# Altium schematic symbol library Hydrolib_sch.SchLib: 65 symbols
Pins are listed as number, name and electrical type; pins without a type are passive.

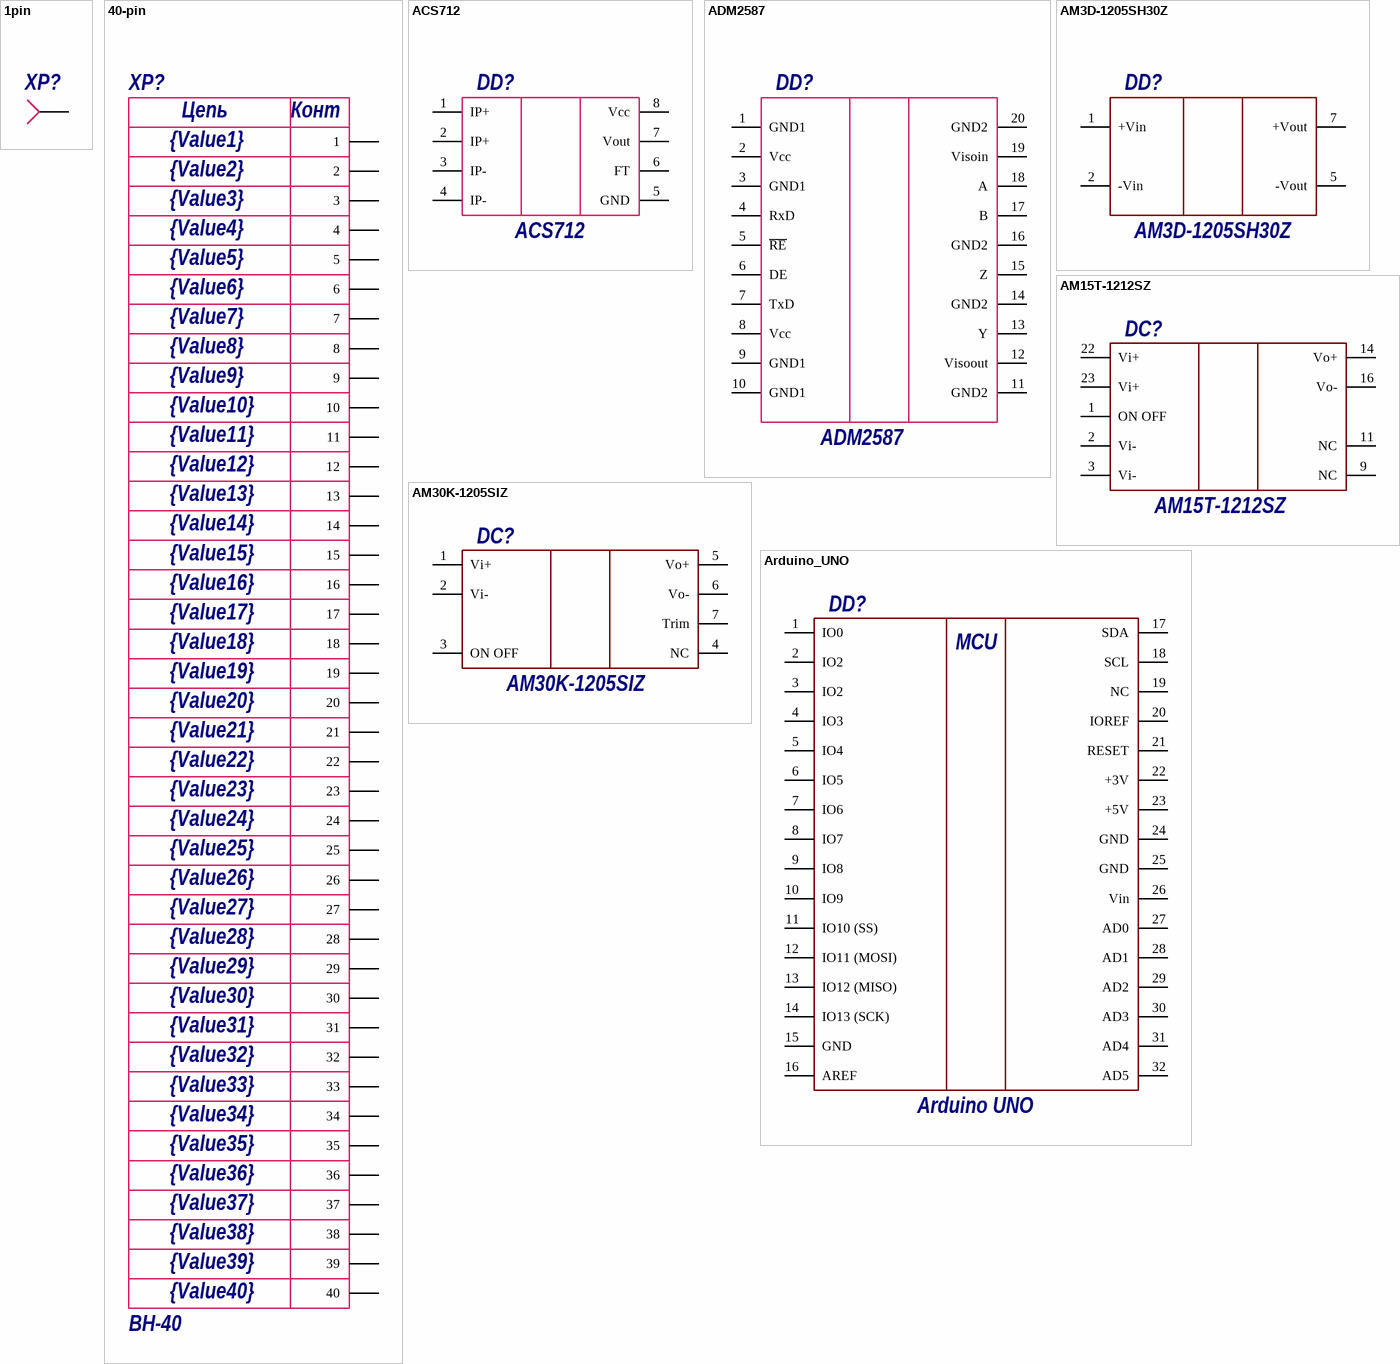
[diagram p0: symbols 1pin to Arduino_UNO]

## 1pin
designator XP?, comment номинал или название  (value not drawn)
Manufacturer: производитель; Rate: уровень напряжений; Shop: магазин с самой дешевой ценой; Notice: примечания; Datasheet: ссылка на даташит; Case: корпус; Value: номинал или название
footprint M3
pins: 1 M2,5

## 40-pin
designator XP?  value BH-40  Value10: {Value10}  Value11: {Value11}  Value12: {Value12}  Value13: {Value13}  Value14: {Value14}  Value15: {Value15}  Value16: {Value16}  Value17: {Value17}  Value18: {Value18}  Value1: {Value1}  Value2: {Value2}  Value3: {Value3}  Value4: {Value4}  Value5: {Value5}  Value6: {Value6}  Value7: {Value7}  Value8: {Value8}  Value9: {Value9}  Value19: {Value19}  Value20: {Value20}  Value21: {Value21}  Value22: {Value22}  Value23: {Value23}  Value24: {Value24}  Value25: {Value25}  Value26: {Value26}  Value27: {Value27}  Value28: {Value28}  Value29: {Value29}  Value30: {Value30}  Value31: {Value31}  Value32: {Value32}  Value33: {Value33}  Value34: {Value34}  Value35: {Value35}  Value36: {Value36}  Value37: {Value37}  Value38: {Value38}  Value39: {Value39}  Value40: {Value40}  (hidden comment: *)
Manufacturer: Connfly; Notice: Вилка-мама 40 пинов, шаг 2.54мм; Rate: 500В AC 1min; Case: корпус; Datasheet: https://lib.chipdip.ru/463/DOC002463525.pdf; Shop: https://www.chipdip.ru/product/idc-40ms
footprint BH-40(IDC-40MS)
pins: 1, 2, 3, 4, 5, 6, 7, 8, 9, 10, 11, 12, 13, 14, 15, 16, 17, 18, 19, 20, 21, 22, 23, 24, 25, 26, 27, 28, 29, 30, 31, 32, 33, 34, 35, 36, 37, 38, 39, 40
text: Цепь; Конт

## ACS712
designator DD?
Manufacturer: Allegro Microsystems; Rate: 4,5...5,5В; Notice: Датчик постоянного тока на эффекте Холла; Datasheet: http://www.allegromicro.com/~/media/Files/Datasheets/ACS712-Datasheet.ashx; Shop: https://www.chipdip.ru/product/acs712elctr-05b-t; Value: ACS712
footprint SOIC8N (SOIC, 8-Leads, Body 4,90x3,90mm, Pitch 1,27mm, IPC Medium Density)
pins: 1 IP+, 2 IP+, 3 IP-, 4 IP-, 5 GND, 6 FT, 7 Vout, 8 Vcc

## ADM2587
designator DD?
Manufacturer: Analog Devies; Notice: Преобразователь RS-485 - UART с развязанным питанием и шиной данных; Rate: -0,5...7,5В; Datasheet: http://www.analog.com/media/en/technical-documentation/data-sheets/ADM2582E_2587E.pdf; Shop: https://ru.aliexpress.com/item/Free-shipping-10PCS-1lot-IC-ADM2587EBRWZ-ADM2587E-2587EBRWZ-SOP-20/32722806856.html?spm=a2g0v.search0302.3.9.s5rrmf&ws_ab_test=searchweb0_0,searchweb201602_0_10073_10152_10151_10536_10538_10537_10539_10055_10154_10211_10056_10155_10059_10312_10314_10534_10313_10533_10060_10084_100031_10083_10129_10107_10128_10307_10341_10065_10142_10340_10068_10343_10541_10342_10125_10169_10301_10345_10103_10543_10102_10344,searchweb201603_0,ppcSwitch_0&algo_pvid=65e5a329-1a38-4845-a227-d5df7d082cf8&algo_expid=65e5a329-1a38-4845-a227-d5df7d082cf8-1
footprint SOIC20N (SOIC, 20-Leads, Body 12,80x7,50mm, Pitch 1,27mm, IPC Medium Density)
pins: 1 GND1 (power), 2 Vcc (power), 3 GND1, 4 RxD, 5 ~{RE}, 6 DE, 7 TxD, 8 Vcc (power), 9 GND1 (power), 10 GND1, 11 GND2 (power), 12 Visoout (power), 13 Y, 14 GND2, 15 Z, 16 GND2, 17 B, 18 A, 19 Visoin (power), 20 GND2 (power)

## AM3D-1205SH30Z
designator DD?
Manufacturer: AIMTEC; Rate: 10,8…13,2В; Shop: ЭЛТЕХ-СПБ; Datasheet: http://www.aimtec.com/site/Aimtec/files/Datasheet/HIGHResolution/AM3D-Z.PDF; Notice: *; Case: SIP7; Value: AM3D-1205SH30Z
footprint AM3D-1205SH30Z
pins: 1 +Vin, 2 -Vin, 5 -Vout, 7 +Vout

## AM15T-1212SZ
designator DC?  value AM15T-1212SZ  (hidden comment: *)
Manufacturer: Aimtec; Notice: 15 ваттный DC-DC преобразователь; Rate: 9...18В; Datasheet: http://www.aimtec.com/site/Aimtec/files/Datasheet/HighResolution/AM15T-Z.pdf; Shop: http://www.eltech.spb.ru/item/am15t_1212sz
footprint AM15T-1212SZ
pins: 1 ON OFF, 2 Vi-, 3 Vi-, 9 NC, 11 NC, 14 Vo+, 16 Vo-, 22 Vi+, 23 Vi+

## AM30K-1205SIZ
designator DC?  value AM30K-1205SIZ  (hidden comment: *)
Manufacturer: Aimtec; Notice: 30 ваттный DC-DC преобразователь; Rate: 9...18В; Datasheet: http://www.aimtec.com/site/Aimtec/files/Datasheet/HighResolution/AM30K-I-Z.pdf; Shop: https://www.eltech.spb.ru/item/am30k_1205siz
footprint AM30K-1205SIZ
pins: 1 Vi+, 2 Vi-, 3 ON OFF, 4 NC, 5 Vo+, 6 Vo-, 7 Trim

## Arduino_UNO
designator DD?  value Arduino UNO  Value1: MCU  (hidden comment: *)
Manufacturer: Arduino; Notice: Микроконтроллерная плата; Rate: 6...20В; Datasheet: https://www.farnell.com/datasheets/1682209.pdf
footprint ARDUINO_UNO
pins: 1 IO0, 2 IO2, 3 IO2, 4 IO3, 5 IO4, 6 IO5, 7 IO6, 8 IO7, 9 IO8, 10 IO9, 11 IO10 (SS), 12 IO11 (MOSI), 13 IO12 (MISO), 14 IO13 (SCK), 15 GND, 16 AREF, 17 SDA, 18 SCL, 19 NC, 20 IOREF, 21 RESET, 22 +3V, 23 +5V, 24 GND, 25 GND, 26 Vin, 27 AD0, 28 AD1, 29 AD2, 30 AD3, 31 AD4, 32 AD5

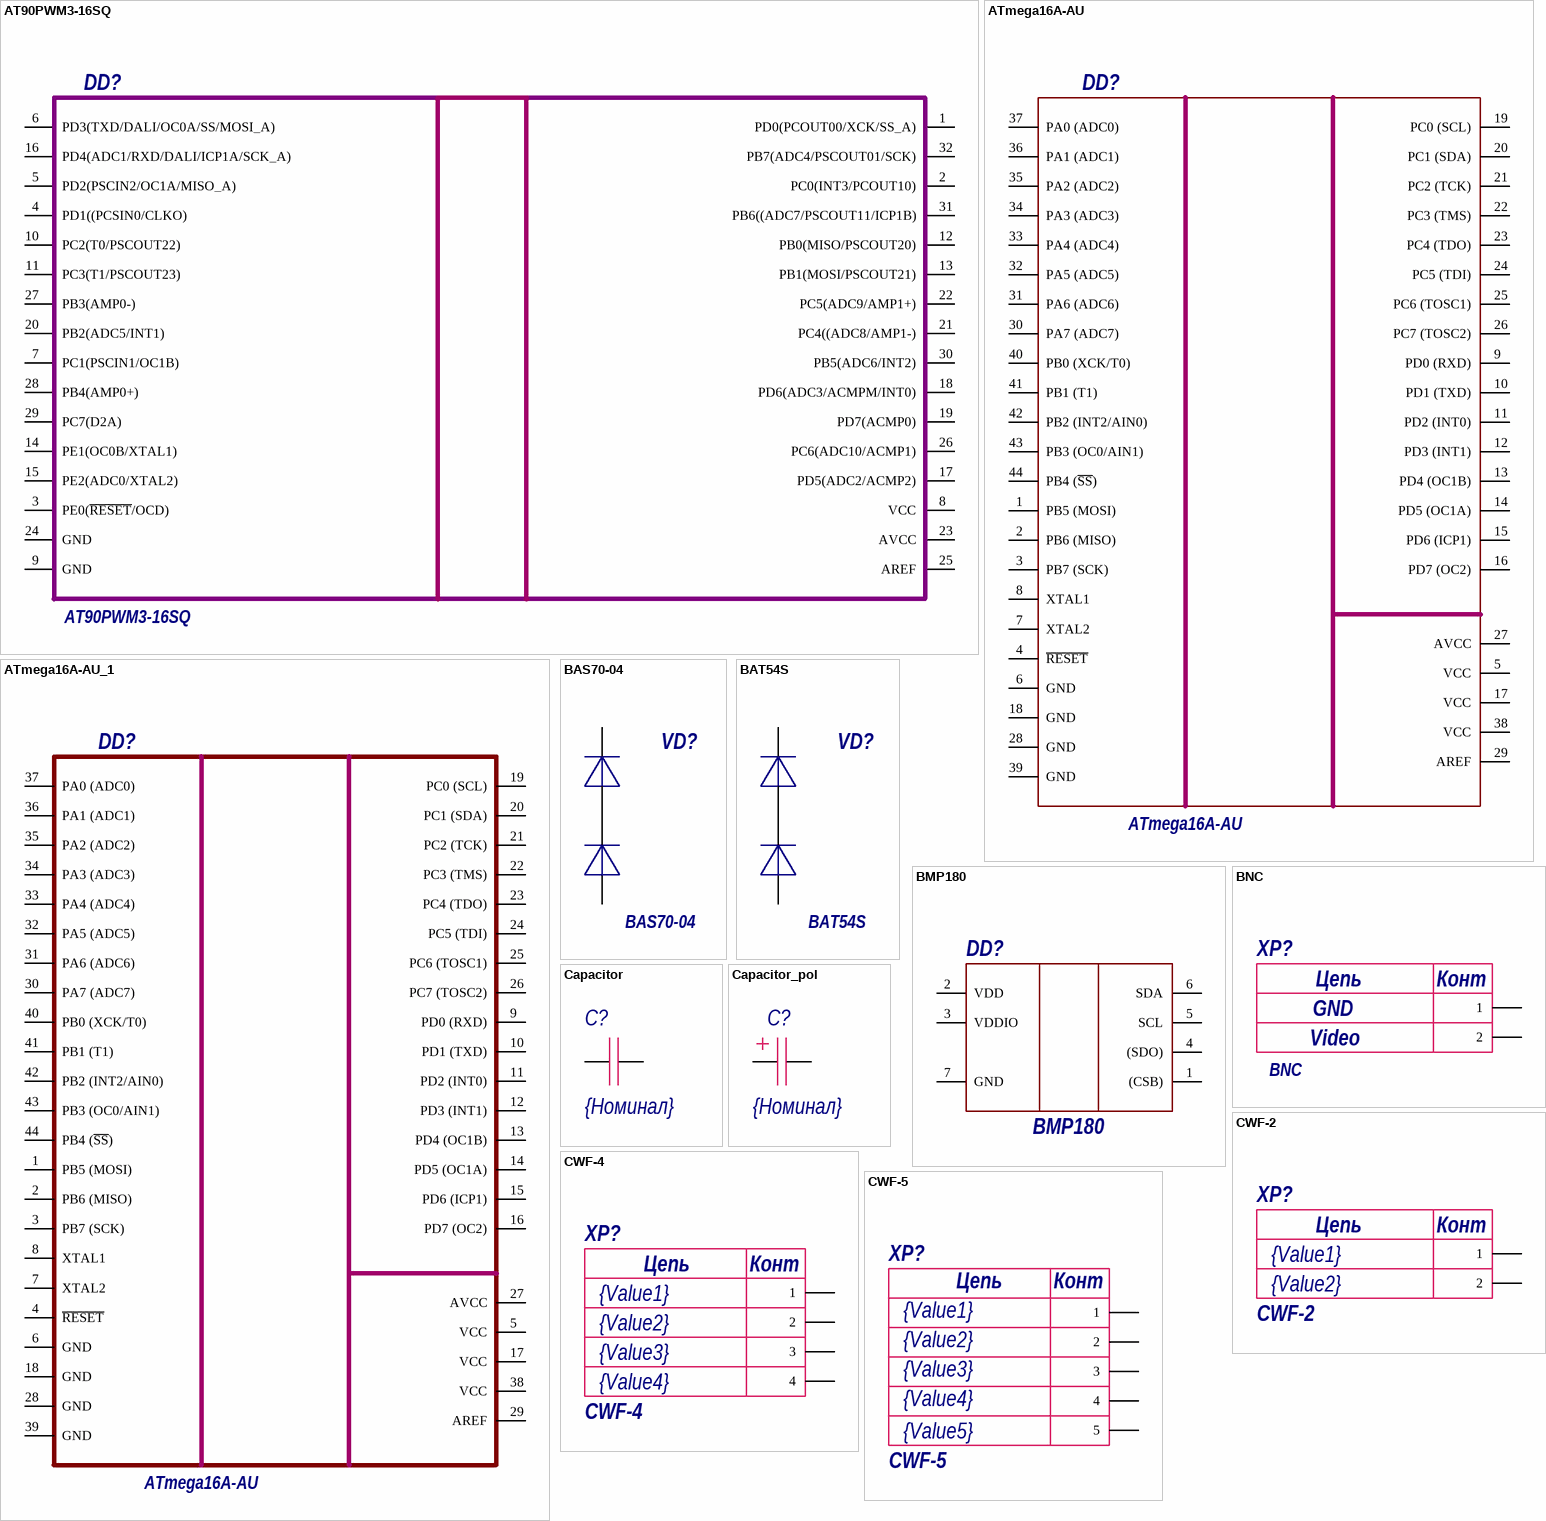
[diagram p1: symbols AT90PWM3-16SQ to CWF-5]

## AT90PWM3-16SQ
designator DD?
Manufacturer: производитель; Rate: уровень напряжений; Shop: магазин с самой дешевой ценой; Notice: Спец контроллер для управления мосфетами; Datasheet: ссылка на даташит; Case: SO-24; Value: AT90PWM3-16SQ
footprint SO32 (SOP, 32-Leads, Body 20,72x7,51mm, Pitch 1,27mm, IPC Medium Density)
pins: 1 PD0(PCOUT00/XCK/SS_A), 2 PC0(INT3/PCOUT10), 3 PE0(~{RESET}/OCD), 4 PD1((PCSIN0/CLKO), 5 PD2(PSCIN2/OC1A/MISO_A), 6 PD3(TXD/DALI/OC0A/SS/MOSI_A), 7 PC1(PSCIN1/OC1B), 8 VCC, 9 GND, 10 PC2(T0/PSCOUT22), 11 PC3(T1/PSCOUT23), 12 PB0(MISO/PSCOUT20), 13 PB1(MOSI/PSCOUT21), 14 PE1(OC0B/XTAL1), 15 PE2(ADC0/XTAL2), 16 PD4(ADC1/RXD/DALI/ICP1A/SCK_A), 17 PD5(ADC2/ACMP2), 18 PD6(ADC3/ACMPM/INT0), 19 PD7(ACMP0), 20 PB2(ADC5/INT1), 21 PC4((ADC8/AMP1-), 22 PC5(ADC9/AMP1+), 23 AVCC, 24 GND, 25 AREF, 26 PC6(ADC10/ACMP1), 27 PB3(AMP0-), 28 PB4(AMP0+), 29 PC7(D2A), 30 PB5(ADC6/INT2), 31 PB6((ADC7/PSCOUT11/ICP1B), 32 PB7(ADC4/PSCOUT01/SCK)

## ATmega16A-AU
designator DD?
Manufacturer: Atmel; Rate: 5В; Notice: примечания; Datasheet: http://www.farnell.com/datasheets/2047989.pdf; Shop: https://www.chipdip.ru/product/atmega16a-au; Case: TQFP44; Value: ATmega16A-AU
footprint 44A_M (Thin QFP, 44-Leads, Body 10x10mm, Pitch 0.8mm, IPC Low Density)
pins: 1 PB5 (MOSI), 2 PB6 (MISO), 3 PB7 (SCK), 4 ~{RESET}, 5 VCC, 6 GND, 7 XTAL2, 8 XTAL1, 9 PD0 (RXD), 10 PD1 (TXD), 11 PD2 (INT0), 12 PD3 (INT1), 13 PD4 (OC1B), 14 PD5 (OC1A), 15 PD6 (ICP1), 16 PD7 (OC2), 17 VCC, 18 GND, 19 PC0 (SCL), 20 PC1 (SDA), 21 PC2 (TCK), 22 PC3 (TMS), 23 PC4 (TDO), 24 PC5 (TDI), 25 PC6 (TOSC1), 26 PC7 (TOSC2), 27 AVCC, 28 GND, 29 AREF, 30 PA7 (ADC7), 31 PA6 (ADC6), 32 PA5 (ADC5), 33 PA4 (ADC4), 34 PA3 (ADC3), 35 PA2 (ADC2), 36 PA1 (ADC1), 37 PA0 (ADC0), 38 VCC, 39 GND, 40 PB0 (XCK/T0), 41 PB1 (T1), 42 PB2 (INT2/AIN0), 43 PB3 (OC0/AIN1), 44 PB4 (~{SS})

## ATmega16A-AU_1
designator DD?, comment ATmega16A-AU
Manufacturer: Atmel; Rate: 5В; Notice: примечания; Datasheet: http://www.farnell.com/datasheets/2047989.pdf; Shop: https://www.chipdip.ru/product/atmega16a-au; Case: TQFP44; Value: ATmega16A-AU
footprint 44A_M (Thin QFP, 44-Leads, Body 10x10mm, Pitch 0.8mm, IPC Low Density)
pins: 1 PB5 (MOSI), 2 PB6 (MISO), 3 PB7 (SCK), 4 ~{RESET}, 5 VCC, 6 GND, 7 XTAL2, 8 XTAL1, 9 PD0 (RXD), 10 PD1 (TXD), 11 PD2 (INT0), 12 PD3 (INT1), 13 PD4 (OC1B), 14 PD5 (OC1A), 15 PD6 (ICP1), 16 PD7 (OC2), 17 VCC, 18 GND, 19 PC0 (SCL), 20 PC1 (SDA), 21 PC2 (TCK), 22 PC3 (TMS), 23 PC4 (TDO), 24 PC5 (TDI), 25 PC6 (TOSC1), 26 PC7 (TOSC2), 27 AVCC, 28 GND, 29 AREF, 30 PA7 (ADC7), 31 PA6 (ADC6), 32 PA5 (ADC5), 33 PA4 (ADC4), 34 PA3 (ADC3), 35 PA2 (ADC2), 36 PA1 (ADC1), 37 PA0 (ADC0), 38 VCC, 39 GND, 40 PB0 (XCK/T0), 41 PB1 (T1), 42 PB2 (INT2/AIN0), 43 PB3 (OC0/AIN1), 44 PB4 (~{SS})

## BAS70-04
designator VD?
Manufacturer: производитель; Rate: 70В; Notice: примечания; Datasheet: ссылка на даташит; Shop: https://www.chipdip.ru/product/bas70-04; Case: sot23; Value: BAS70-04
footprint SOT23
pins: 1, 2, 3

## BAT54S
designator VD?
Manufacturer: производитель; Rate: уровень напряжений; Notice: примечания; Datasheet: ссылка на даташит; Shop: https://www.chipdip.ru/product/bat54s-ons; Case: sot23; Value: BAT54S
footprint SOT23
pins: 1, 2, 3

## BMP180
designator DD?
Manufactore: Bosch; Rate: 1,62...3,6В; Notice: Цифровой датчик давления; Datasheet: https://cdn-shop.adafruit.com/datasheets/BST-BMP180-DS000-09.pdf; Shop: http://www.electronshik.ru/item/bmp180-982764; Value: BMP180
footprint LGA7C145P3X3_380X360X100 (LGA, 7-Leads, Body 3,80x3,60mmx1,00mm, Pitch 1,45mm)
pins: 1 (CSB), 2 VDD, 3 VDDIO, 4 (SDO), 5 SCL, 6 SDA, 7 GND

## BNC
designator XP?
Manufacturer: производитель; Rate: уровень напряжений; Shop: магазин с самой дешевой ценой; Notice: примечания; Datasheet: ссылка на даташит; Case: корпус; Value: BNC
footprint BNC
pins: 1, 2
text: Цепь; Конт; GND; Video

## Capacitor
designator C?  value {Номинал}  (hidden comment: Capacitor)
footprint 0603C (Chip Resistor, 2-Leads, Body 1,40x0,80mm, IPC Medium Density)
footprint 0805C
footprint 1812С
pins: 1, 2

## Capacitor_pol
designator C?, comment value {Номинал}  (hidden comment: 1uF)
footprint TC_A (3216) (Tantalum capacitor, type A,  1 pin - plus)
footprint TC_E (7343H) (Tantalum capacitor, type E, 1 pin - plus)
footprint TC_D (7343) (Tantalum capacitor, type D, 1 pin - plus)
footprint TC_C (6032) (Tantalum capacitor, type C, 1 pin - plus)
footprint TC_B (3528) (Tantalum capacitor, type B, 1 pin - plus)
footprint Capacitor 8x12
footprint Capacitor 10x12
pins: 1, 2

## CWF-2
designator XP?  value CWF-2  Value1: {Value1}  Value2: {Value2}  (hidden comment: *)
Manufacturer: Connfly; Notice: Вилка-мама 2 пина, шаг 2.5мм; Rate: 500В AC 1min; Case: корпус; Datasheet: https://lib.chipdip.ru/413/DOC001413777.pdf; Shop: https://www.chipdip.ru/product/cwf-2
footprint CWF-2 (перемычка для плат)
pins: 1, 2
text: Цепь; Конт

## CWF-4
designator XP?  value CWF-4  Value1: {Value1}  Value2: {Value2}  Value3: {Value3}  Value4: {Value4}  (hidden comment: *)
Manufactore: Connfly; Notice: Вилка-мама 4 пина, шаг 2.5мм; Rate: 500В AC 1min; Case: корпус; Datasheet: https://lib.chipdip.ru/413/DOC001413777.pdf; Shop: https://www.chipdip.ru/product/cwf-4
footprint CWF-4
pins: 1, 2, 3, 4
text: Цепь; Конт

## CWF-5
designator XP?  value CWF-5  Value1: {Value1}  Value2: {Value2}  Value3: {Value3}  Value4: {Value4}  Value5: {Value5}  (hidden comment: *)
Notice: Вилка-мама 5 пинов, шаг 2.5мм; Rate: 500В AC 1min; Case: корпус; Datasheet: https://lib.chipdip.ru/413/DOC001413777.pdf; Manufactore: CWF-5; Shop: https://www.chipdip.ru/product/cwf-5
footprint CWF-5
pins: 1, 2, 3, 4, 5
text: Цепь; Конт

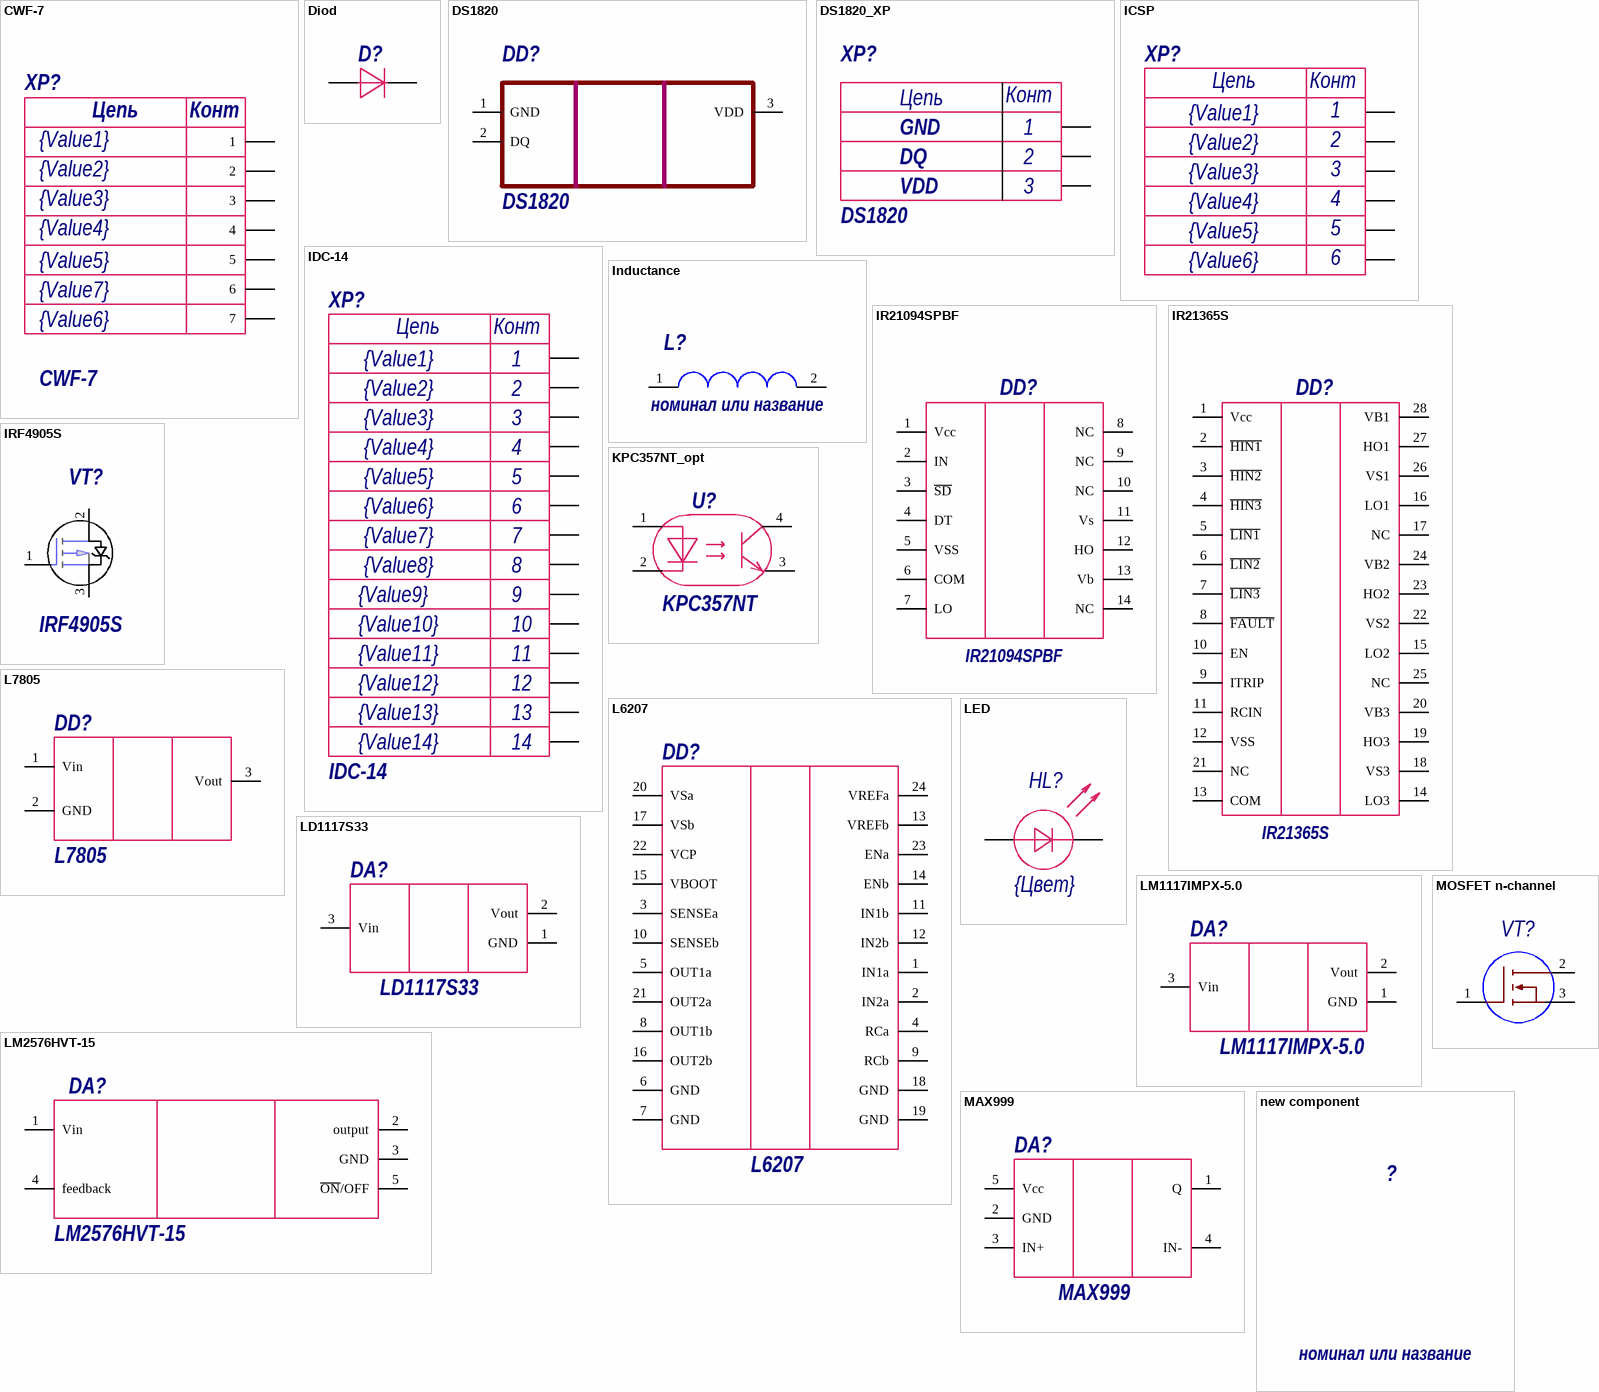
[diagram p2: symbols CWF-7 to new component]

## CWF-7
designator XP?  value CWF-7  Value1: {Value1}  Value2: {Value2}  Value3: {Value3}  Value4: {Value4}  Value5: {Value5}  Value6: {Value6}  Value7: {Value7}  (hidden comment: *)
Notice: Вилка-мама 5 пинов, шаг 2.5мм; Rate: 500В AC 1min; Case: корпус; Datasheet: https://lib.chipdip.ru/413/DOC001413777.pdf; Manufactore: CWF-7; Shop: https://www.chipdip.ru/product/cwf-5
footprint CWF-5
pins: 1, 2, 3, 4, 5, 6, 7
text: Цепь; Конт

## Diod
designator D?
Value: {Номинал}
footprint SOD-123 (SODFL, 2-Leads, Body 1.55x3.70mm, IPC Medium Density)
pins: 1, 2

## DS1820
designator DD?
Value: DS1820
pins: 1 GND, 2 DQ, 3 VDD

## DS1820_XP
designator XP?, comment DS1820
Value: DS1820
pins: 1, 2, 3
text: Цепь; Конт; GND; DQ; VDD

## ICSP
designator XP?  Value1: {Value1}  Value2: {Value2}  Value6: {Value6}  Value5: {Value5}  Value3: {Value3}  Value4: {Value4}  (hidden comment: *)
Notice: Вилка программатора
footprint ICSP
pins: 1, 2, 3, 4, 5, 6
text: Цепь; Конт

## IDC-14
designator XP?  value IDC-14  Value1: {Value1}  Value2: {Value2}  Value3: {Value3}  Value4: {Value4}  Value5: {Value5}  Value6: {Value6}  Value7: {Value7}  Value8: {Value8}  Value9: {Value9}  Value10: {Value10}  Value11: {Value11}  Value12: {Value12}  Value13: {Value13}  Value14: {Value14}  (hidden comment: *)
Manufacturer: Zhenqin; Notice: Вилка-мама 14 пинов, шаг 2.54мм; Rate: 1000В AC 1min; Datasheet: https://lib.chipdip.ru/273/DOC000273693.pdf; Shop: https://www.chipdip.ru/product/idc-14f
footprint IDC-14MC (IDC-14 Male Connector)
pins: 1, 2, 3, 4, 5, 6, 7, 8, 9, 10, 11, 12, 13, 14
text: Цепь; Конт

## Inductance
designator L?, comment номинал или название
Manufacturer: производитель; Rate: уровень напряжений; Shop: магазин с самой дешевой ценой; Notice: примечания; Datasheet: ссылка на даташит; Case: корпус; Value: номинал или название
footprint RLB1314(induct)
footprint SMT inductors
pins: 1, 2

## IR21094SPBF
designator DD?
Manufacturer: производитель; Rate: 10-20В; Shop: магазин с самой дешевой ценой; Notice: примечания; Datasheet: http://www.farnell.com/datasheets/59972.pdf; Case: корпус; Value: IR21094SPBF
footprint SOIC14N (SOIC, 14-Leads, Body 8,65x3,90mm, Pitch 1,27mm, IPC Medium Density)
pins: 1 Vcc, 2 IN, 3 ~{SD}, 4 DT, 5 VSS, 6 COM, 7 LO, 8 NC, 9 NC, 10 NC, 11 Vs, 12 HO, 13 Vb, 14 NC

## IR21365S
designator DD?
Manufacturer: International Rectifier; Rate: 10-20В; Notice: драйвер мосфетов 3 фазы; Datasheet: https://lib.chipdip.ru/779/DOC000779599.pdf; Shop: https://www.chipdip.ru/product/ir21365s; Case: SO28; Value: IR21365S
footprint SO28
pins: 1 Vcc, 2 ~{HIN1}, 3 ~{HIN2}, 4 ~{HIN3}, 5 ~{LIN1}, 6 ~{LIN2}, 7 ~{LIN3}, 8 ~{FAULT}, 9 ITRIP, 10 EN, 11 RCIN, 12 VSS, 13 COM, 14 LO3, 15 LO2, 16 LO1, 17 NC, 18 VS3, 19 HO3, 20 VB3, 21 NC, 22 VS2, 23 HO2, 24 VB2, 25 NC, 26 VS1, 27 HO1, 28 VB1

## IRF4905S
designator VT?  value IRF4905S  (hidden comment: *)
Manufacturer: International Rectifier; Notice: P-канальный MOSFET транзистор; Rate: -20...20В Затвор-исток; Datasheet: http://www.irf.com/product-info/datasheets/data/irf4905s.pdf; Shop: https://www.chipdip.ru/product/irf4905
footprint D2PAK (D2-PAK, 3-Pads, Body 8,21x8,63mm (max), IPC Medium Density)
pins: 1, 2, 3

## KPC357NT_opt
designator U?, comment KPC357NT
Manufacturer: Cosmo Electronics; Notice: Оптопара с фототранзистором; Rate: -5...80В Коллектор-эмиттер, 6В - обратное напряжение диода; Datasheet: http://www.cosmo-ic.com/object/products/KPC357NT.pdf; Shop: https://www.chipdip.ru/product/kpc357nt; Value: KPC357NT
footprint OPTRON
pins: 1, 2, 3, 4

## L6207
designator DD?
Manufacturer: ST Microelectronics; Notice: КМОП-драйвер с ШИМ; Rate: -0,3...7В - цифровое, 8...60В - силовое; Datasheet: http://www.st.com/content/ccc/resource/technical/document/datasheet/4f/3d/e2/db/94/78/40/93/CD00002293.pdf/files/CD00002293.pdf/jcr:content/translations/en.CD00002293.pdf; Shop: https://ru.aliexpress.com/item/10pcs-lot-L6207D013TR-L6207D-L6207-SOP24/32709430801.html?spm=a2g0v.search0302.3.8.qwH52J&ws_ab_test=searchweb0_0,searchweb201602_0_10073_10152_10151_10536_10538_10537_10539_10055_10154_10211_10056_10155_10059_10312_10314_10534_10313_10533_10060_10084_100031_10083_10129_10107_10128_10307_10341_10065_10142_10340_10068_10343_10541_10342_10125_10169_10301_10345_10103_10543_10102_10344,searchweb201603_0,ppcSwitch_0&algo_pvid=a021a9ff-919b-413d-924d-a9c531deb961&algo_expid=a021a9ff-919b-413d-924d-a9c531deb961-1; Value: L6207
footprint SO24
pins: 1 IN1a, 2 IN2a, 3 SENSEa, 4 RCa, 5 OUT1a, 6 GND, 7 GND, 8 OUT1b, 9 RCb, 10 SENSEb, 11 IN1b, 12 IN2b, 13 VREFb, 14 ENb, 15 VBOOT, 16 OUT2b, 17 VSb, 18 GND, 19 GND, 20 VSa, 21 OUT2a, 22 VCP, 23 ENa, 24 VREFa

## L7805
designator DD?  value L7805
L7805_stab 12->5; Manufacturer: ST Microelectronics; Notice: Стабилизатор напряжения +5В; Rate: ...35В; Datasheet: http://www.st.com/content/ccc/resource/technical/document/datasheet/41/4f/b3/b0/12/d4/47/88/CD00000444.pdf/files/CD00000444.pdf/jcr:content/translations/en.CD00000444.pdf; Shop: https://www.chipdip.ru/product/l7805cv
footprint DPAK (D-PAK, 3-Pads, Body 6.20x6.66mm (max), IPC Medium Density)
pins: 1 Vin, 2 GND, 3 Vout

## LD1117S33
designator DA?
Manufacturer: ST Microelectronics; Notice: Стабилизатор напряжения 3,3В; Rate: 0...15В; Datasheet: https://lib.chipdip.ru/168/DOC001168686.pdf; Shop: https://www.chipdip.ru/product/ld1117v33; Case: SOT223; Value: LD1117S33
footprint SOT223 (SOT223, ld1117)
pins: 1 GND, 2 Vout, 3 Vin

## LED
designator HL?  Color: {Цвет}
Manufacturer: -; Rate: -; Datasheet: -; Shop: -; Notice: -; Case: -
footprint 0805D
pins: 1, 2

## LM1117IMPX-5.0
designator DA?
Manufacturer: ST Microelectronics; Notice: Стабилизатор напряжения 5В; Rate: 0...15В; Datasheet: https://lib.chipdip.ru/276/DOC000276680.pdf; Shop: https://www.chipdip.ru/product/lm1117impx-5.0-nopb; Case: SOT223; Value: LM1117IMPX-5.0
footprint SOT223 (SOT223, ld1117)
pins: 1 GND, 2 Vout, 3 Vin

## LM2576HVT-15
designator DA?
Manufacturer: Texas Instruments; Notice: Стабилизатор напряжения 15В; Rate: 4...60В; Datasheet: https://lib.chipdip.ru/307/DOC000307381.pdf; Shop: https://www.chipdip.ru/product/lm2576hvt-15-nopb-span; Case: TO-220-5; Value: LM2576HVT-15
footprint TO-220-5
pins: 1 Vin, 2 output, 3 GND, 4 feedback, 5 ~{ON}/OFF

## MAX999
designator DA?
Manufacturer: Maxin Integrated; Notice: Высокоскоростной компаратор; Rate: 2,7...5,5В; Datasheet: https://datasheets.maximintegrated.com/en/ds/MAX961-MAX999.pdf; Shop: https://ru.aliexpress.com/item/Free-shipping-10pcs-lot-MAX999EUK-T-MAX999EUK-MAX999EUK-MAX999E-MAX999-IC-COMP-BEYOND-THE-RAILS-SOT23/32327459016.html?spm=a2g0v.search0104.3.9.NvBKPz&ws_ab_test=searchweb0_0,searchweb201602_2_10152_10065_10151_10344_10068_10345_10342_10343_10340_10341_10543_10541_10084_10083_10307_10301_5640015_10060_10155_10154_10056_10055_10539_10538_5370015_10537_10312_10536_10059_10313_10314_10534_10533_100031_10211_10103_10128_10073_10102_10129_10169_10142_10107_10125,searchweb201603_2,ppcSwitch_5&btsid=31b68e71-95a5-4f7a-86e6-35d0c4d1aa2b&algo_expid=dcb29998-31f2-4313-bc28-512c5678a331-1&algo_pvid=dcb29998-31f2-4313-bc28-512c5678a331; Value: MAX999
footprint SOT23-5 (SOT23-5, max999)
pins: 1 Q, 2 GND, 3 IN+, 4 IN-, 5 Vcc

## MOSFET n-channel
designator VT?
footprint TO 220 DRAIN DOWN
pins: 1 G, 2 D, 3 S

## new component
designator ?, comment номинал или название
Manufacturer: производитель; Rate: уровень напряжений; Shop: магазин с самой дешевой ценой; Notice: примечания; Datasheet: ссылка на даташит; Case: корпус; Value: номинал или название

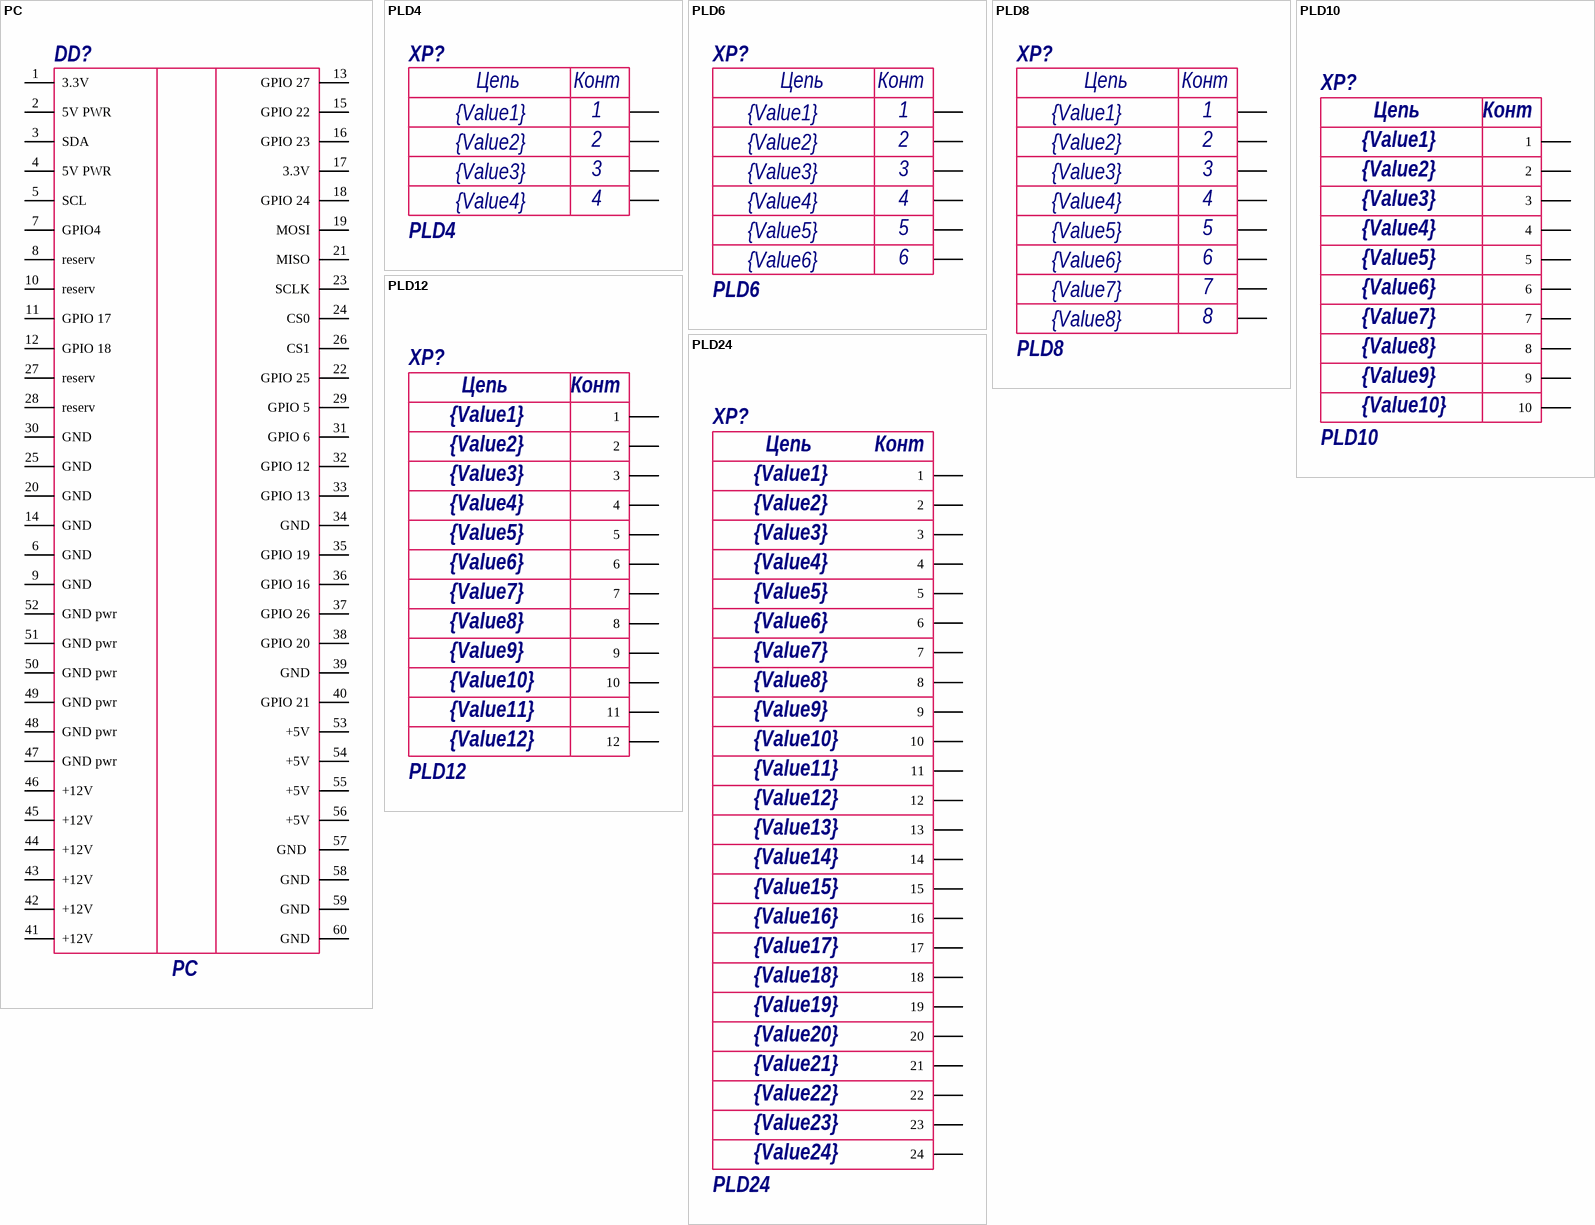
[diagram p3: symbols PC to PLD24]

## PC
designator DD?  value PC  (hidden comment: *)
footprint PC
pins: 1 3.3V, 2 5V PWR, 3 SDA, 4 5V PWR, 5 SCL, 6 GND, 7 GPIO4, 8 reserv, 9 GND, 10 reserv, 11 GPIO 17, 12 GPIO 18, 13 GPIO 27, 14 GND, 15 GPIO 22, 16 GPIO 23, 17 3.3V, 18 GPIO 24, 19 MOSI, 20 GND, 21 MISO, 22 GPIO 25, 23 SCLK, 24 CS0, 25 GND, 26 CS1, 27 reserv, 28 reserv, 29 GPIO 5, 30 GND, 31 GPIO 6, 32 GPIO 12, 33 GPIO 13, 34 GND, 35 GPIO 19, 36 GPIO 16, 37 GPIO 26, 38 GPIO 20, 39 GND, 40 GPIO 21, 41 +12V, 42 +12V, 43 +12V, 44 +12V, 45 +12V, 46 +12V, 47 GND pwr, 48 GND pwr, 49 GND pwr, 50 GND pwr, 51 GND pwr, 52 GND pwr, 53 +5V, 54 +5V, 55 +5V, 56 +5V, 57 GND , 58 GND, 59 GND, 60 GND

## PLD4
designator XP?  value PLD4  Value3: {Value3}  Value2: {Value2}  Value4: {Value4}  Value1: {Value1}  (hidden comment: *)
Manufacturer: Connfly; Notice: Вилка штырьевая 4 пина, шаг 2,54мм; Rate: 500В AC 1min; Datasheet: https://lib.chipdip.ru/227/DOC000227157.pdf; Shop: https://www.chipdip.ru/product/pls-4
footprint PLD4
pins: 1, 2, 3, 4
text: Цепь; Конт

## PLD6
designator XP?  value PLD6  Value1: {Value1}  Value2: {Value2}  Value3: {Value3}  Value4: {Value4}  Value5: {Value5}  Value6: {Value6}  (hidden comment: *)
Manufacturer: Connfly; Notice: Вилка штырьевая 6 пинов, шаг 2,54мм; Rate: 500В AC 1min; Datasheet: https://lib.chipdip.ru/227/DOC000227157.pdf; Shop: https://www.chipdip.ru/product/pld-6
footprint PLD6
footprint PLD6F(PC-104)
footprint PLD6F
pins: 1, 2, 3, 4, 5, 6
text: Цепь; Конт

## PLD8
designator XP?  value PLD8  Value1: {Value1}  Value2: {Value2}  Value3: {Value3}  Value4: {Value4}  Value5: {Value5}  Value6: {Value6}  Value7: {Value7}  Value8: {Value8}  (hidden comment: *)
Manufacturer: Connfly; Notice: Вилка штырьевая 8 пинов, шаг 2,54мм; Rate: 500В AC 1min; Datasheet: https://lib.chipdip.ru/227/DOC000227157.pdf; Shop: https://www.chipdip.ru/product/pld-8-ds1021-2x4
footprint PLD8
pins: 1, 2, 3, 4, 5, 6, 7, 8
text: Цепь; Конт

## PLD10
designator XP?  value PLD10  Value10: {Value10}  Value1: {Value1}  Value2: {Value2}  Value3: {Value3}  Value4: {Value4}  Value5: {Value5}  Value6: {Value6}  Value7: {Value7}  Value8: {Value8}  Value9: {Value9}  (hidden comment: *)
Manufacturer: Connfly; Notice: Вилка штырьевая 10 пинов, шаг 2,54мм; Rate: 500В AC 1min; Datasheet: https://lib.chipdip.ru/227/DOC000227157.pdf; Shop: https://www.chipdip.ru/product/pld-10
footprint PLD10
pins: 1, 2, 3, 4, 5, 6, 7, 8, 9, 10
text: Цепь; Конт

## PLD12
designator XP?  value PLD12  Value10: {Value10}  Value11: {Value11}  Value12: {Value12}  Value1: {Value1}  Value2: {Value2}  Value3: {Value3}  Value4: {Value4}  Value5: {Value5}  Value6: {Value6}  Value7: {Value7}  Value8: {Value8}  Value9: {Value9}  (hidden comment: *)
Manufacturer: Connfly; Notice: Вилка штырьевая 12 пинов, шаг 2,54мм; Rate: 500В AC 1min; Datasheet: https://lib.chipdip.ru/227/DOC000227157.pdf; Shop: https://www.chipdip.ru/product/pld-12
footprint PLD12
pins: 1, 2, 3, 4, 5, 6, 7, 8, 9, 10, 11, 12
text: Цепь; Конт

## PLD24
designator XP?  value PLD24  Value10: {Value10}  Value11: {Value11}  Value12: {Value12}  Value13: {Value13}  Value14: {Value14}  Value15: {Value15}  Value16: {Value16}  Value17: {Value17}  Value18: {Value18}  Value1: {Value1}  Value2: {Value2}  Value3: {Value3}  Value4: {Value4}  Value5: {Value5}  Value6: {Value6}  Value7: {Value7}  Value8: {Value8}  Value9: {Value9}  Value19: {Value19}  Value20: {Value20}  Value21: {Value21}  Value22: {Value22}  Value23: {Value23}  Value24: {Value24}  (hidden comment: *)
Manufacturer: Connfly; Notice: Вилка штырьевая 24 пина, шаг 2,54мм; Rate: 500В AC 1min; Datasheet: https://lib.chipdip.ru/227/DOC000227157.pdf; Shop: https://www.chipdip.ru/product/pld-24
footprint PLD24
pins: 1, 2, 3, 4, 5, 6, 7, 8, 9, 10, 11, 12, 13, 14, 15, 16, 17, 18, 19, 20, 21, 22, 23, 24
text: Цепь; Конт

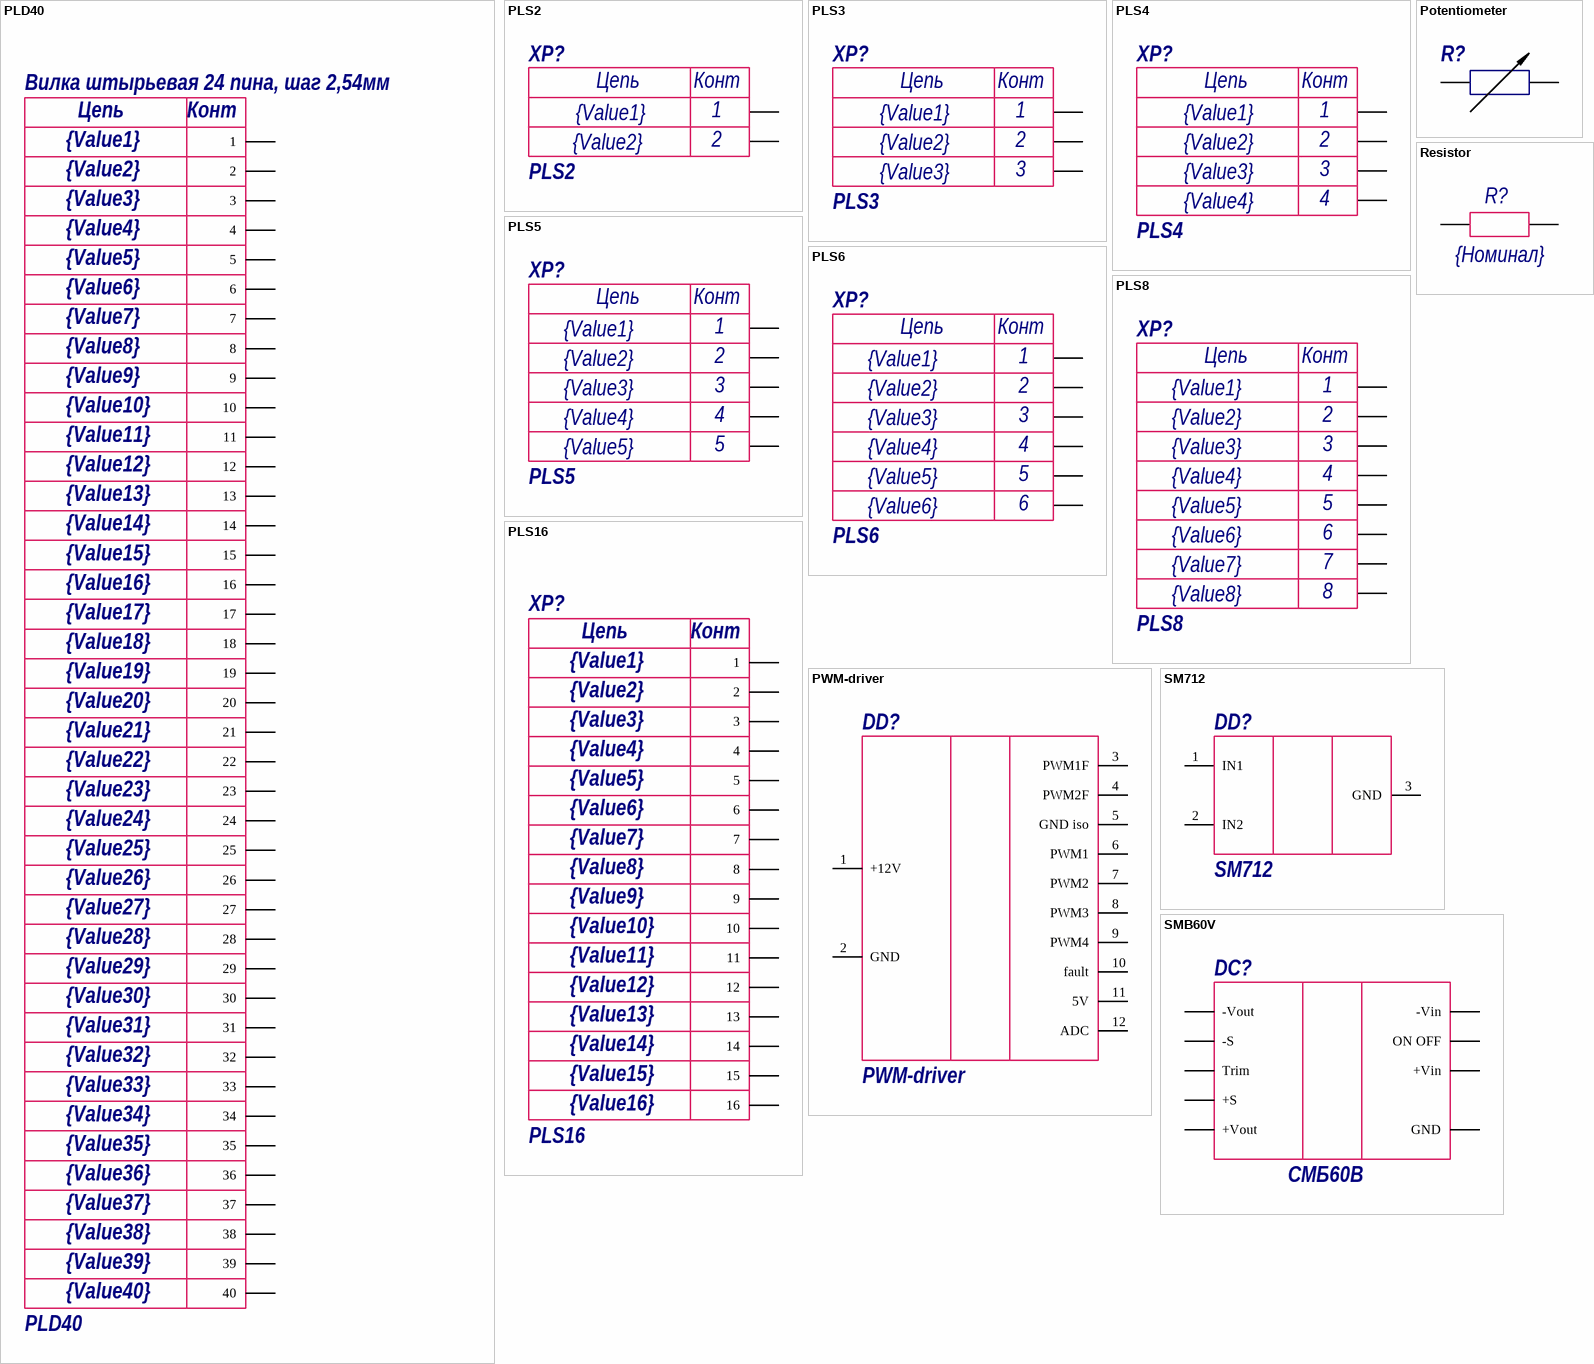
[diagram p4: symbols PLD40 to SMB60V]

## PLD40
designator Вилка штырьевая 24 пина, шаг 2,54мм  value PLD40  Value10: {Value10}  Value11: {Value11}  Value12: {Value12}  Value13: {Value13}  Value14: {Value14}  Value15: {Value15}  Value16: {Value16}  Value17: {Value17}  Value18: {Value18}  Value1: {Value1}  Value2: {Value2}  Value3: {Value3}  Value4: {Value4}  Value5: {Value5}  Value6: {Value6}  Value7: {Value7}  Value8: {Value8}  Value9: {Value9}  Value19: {Value19}  Value20: {Value20}  Value21: {Value21}  Value22: {Value22}  Value23: {Value23}  Value24: {Value24}  Value25: {Value25}  Value26: {Value26}  Value27: {Value27}  Value28: {Value28}  Value29: {Value29}  Value30: {Value30}  Value31: {Value31}  Value32: {Value32}  Value33: {Value33}  Value34: {Value34}  Value35: {Value35}  Value36: {Value36}  Value37: {Value37}  Value38: {Value38}  Value39: {Value39}  Value40: {Value40}  (hidden comment: *)
Manufacturer: Connfly; Notice: Вилка штырьевая 40 пинов, шаг 2,54мм; Rate: 500В AC 1min; Datasheet: https://lib.chipdip.ru/463/DOC002463525.pdf; Shop: https://www.chipdip.ru/product/pld-40
footprint PLD40
pins: 1, 2, 3, 4, 5, 6, 7, 8, 9, 10, 11, 12, 13, 14, 15, 16, 17, 18, 19, 20, 21, 22, 23, 24, 25, 26, 27, 28, 29, 30, 31, 32, 33, 34, 35, 36, 37, 38, 39, 40
text: Цепь; Конт

## PLS2
designator XP?  value PLS2  Value1: {Value1}  Value2: {Value2}  (hidden comment: *)
Manufacturer: Connfly; Notice: Вилка штырьевая 2 пина, шаг 2,54мм; Rate: 500В AC 1min; Datasheet: https://lib.chipdip.ru/227/DOC000227157.pdf; Shop: https://www.chipdip.ru/product/pls-2
footprint PLS2
pins: 1, 2
text: Цепь; Конт

## PLS3
designator XP?  value PLS3  Value3: {Value3}  Value2: {Value2}  Value1: {Value1}  (hidden comment: *)
Manufacturer: Connfly; Notice: Вилка штырьевая 3 пина, шаг 2,54мм; Rate: 500В AC 1min; Datasheet: https://lib.chipdip.ru/227/DOC000227157.pdf; Shop: https://www.chipdip.ru/product/pls-3
footprint PLS3
pins: 1, 2, 3
text: Цепь; Конт

## PLS4
designator XP?  value PLS4  Value3: {Value3}  Value2: {Value2}  Value4: {Value4}  Value1: {Value1}  (hidden comment: *)
Manufacturer: Connfly; Notice: Вилка штырьевая 4 пина, шаг 2,54мм; Rate: 500В AC 1min; Datasheet: https://lib.chipdip.ru/227/DOC000227157.pdf; Shop: https://www.chipdip.ru/product/pls-4
footprint PLS4
pins: 1, 2, 3, 4
text: Цепь; Конт

## PLS5
designator XP?  value PLS5  Value1: {Value1}  Value2: {Value2}  Value3: {Value3}  Value4: {Value4}  Value5: {Value5}  (hidden comment: *)
Manufacturer: Connfly; Notice: Вилка штырьевая 5 пинов, шаг 2,54мм; Rate: 500В AC 1min; Datasheet: https://lib.chipdip.ru/227/DOC000227157.pdf; Shop: https://www.chipdip.ru/product/pls-5
footprint PLS5
pins: 1, 2, 3, 4, 5
text: Цепь; Конт

## PLS6
designator XP?  value PLS6  Value1: {Value1}  Value2: {Value2}  Value3: {Value3}  Value4: {Value4}  Value5: {Value5}  Value6: {Value6}  (hidden comment: *)
Manufacturer: Connfly; Notice: Вилка штырьевая 6 пинов, шаг 2,54мм; Rate: 500В AC 1min; Datasheet: https://lib.chipdip.ru/227/DOC000227157.pdf; Shop: https://www.chipdip.ru/product/pls-6
footprint PLS6
pins: 1, 2, 3, 4, 5, 6
text: Цепь; Конт

## PLS8
designator XP?  value PLS8  Value1: {Value1}  Value2: {Value2}  Value3: {Value3}  Value4: {Value4}  Value5: {Value5}  Value6: {Value6}  Value7: {Value7}  Value8: {Value8}  (hidden comment: *)
Manufacturer: Connfly; Notice: Вилка штырьевая 8 пинов, шаг 2,54мм; Rate: 500В AC 1min; Datasheet: https://lib.chipdip.ru/227/DOC000227157.pdf; Shop: https://www.chipdip.ru/product/pls-8
pins: 1, 2, 3, 4, 5, 6, 7, 8
text: Цепь; Конт

## PLS16
designator XP?  value PLS16  Value10: {Value10}  Value11: {Value11}  Value12: {Value12}  Value13: {Value13}  Value14: {Value14}  Value15: {Value15}  Value16: {Value16}  Value1: {Value1}  Value2: {Value2}  Value3: {Value3}  Value4: {Value4}  Value5: {Value5}  Value6: {Value6}  Value7: {Value7}  Value8: {Value8}  Value9: {Value9}  (hidden comment: *)
Manufacturer: Connfly; Notice: Вилка штырьевая 16 пинов, шаг 2,54мм; Rate: 500В AC 1min; Datasheet: https://lib.chipdip.ru/227/DOC000227157.pdf; Shop: https://www.chipdip.ru/product/pls-16
footprint PLS16
pins: 1, 2, 3, 4, 5, 6, 7, 8, 9, 10, 11, 12, 13, 14, 15, 16
text: Цепь; Конт

## Potentiometer
designator R?  (value not drawn)
footprint POT4MM
pins: 1, 2, 3

## PWM-driver
designator DD?  value PWM-driver  (hidden comment: *)
pins: 1 +12V, 2 GND, 3 PWM1F, 4 PWM2F, 5 GND iso, 6 PWM1, 7 PWM2, 8 PWM3, 9 PWM4, 10 fault, 11 5V, 12 ADC

## Resistor
designator R?  value {Номинал}
footprint 0805R
footprint 0603R (Chip Resistor, 2-Leads, Body 1.60x0.85mm, IPC Medium Density)
pins: 1, 2

## SM712
designator DD?  value SM712  (hidden comment: *)
Manufactore: SEMTECH; Notice: Защита RS-485; Rate: 12В; Datasheet: http://www.semtech.com/images/datasheet/sm712.pdf; Shop: https://www.chipdip.ru/product/sm712.tct; Case: SOT23
footprint SOT23
pins: 1 IN1, 2 IN2, 3 GND

## SMB60V
designator DC?  value СМБ60В  (hidden comment: SMB60V)
СМБ60В; Manufacturer: Ирбис; Notice: DC-DC преобразователь 60 Вт, выходное напряжение - 12В; Rate: 18...72В; Datasheet: http://newet.ru/upload/iblock/da3/da32c35c0007bb917bca288ed4fe9d4e.pdf; Shop: http://newet.ru/catalog/s_vykhodnym_napryazheniem_12_v/konvertor_smb60v/
footprint SMB60V
pins: +S, +Vin, +Vout, -S, -Vin, -Vout, GND, ON OFF, Trim

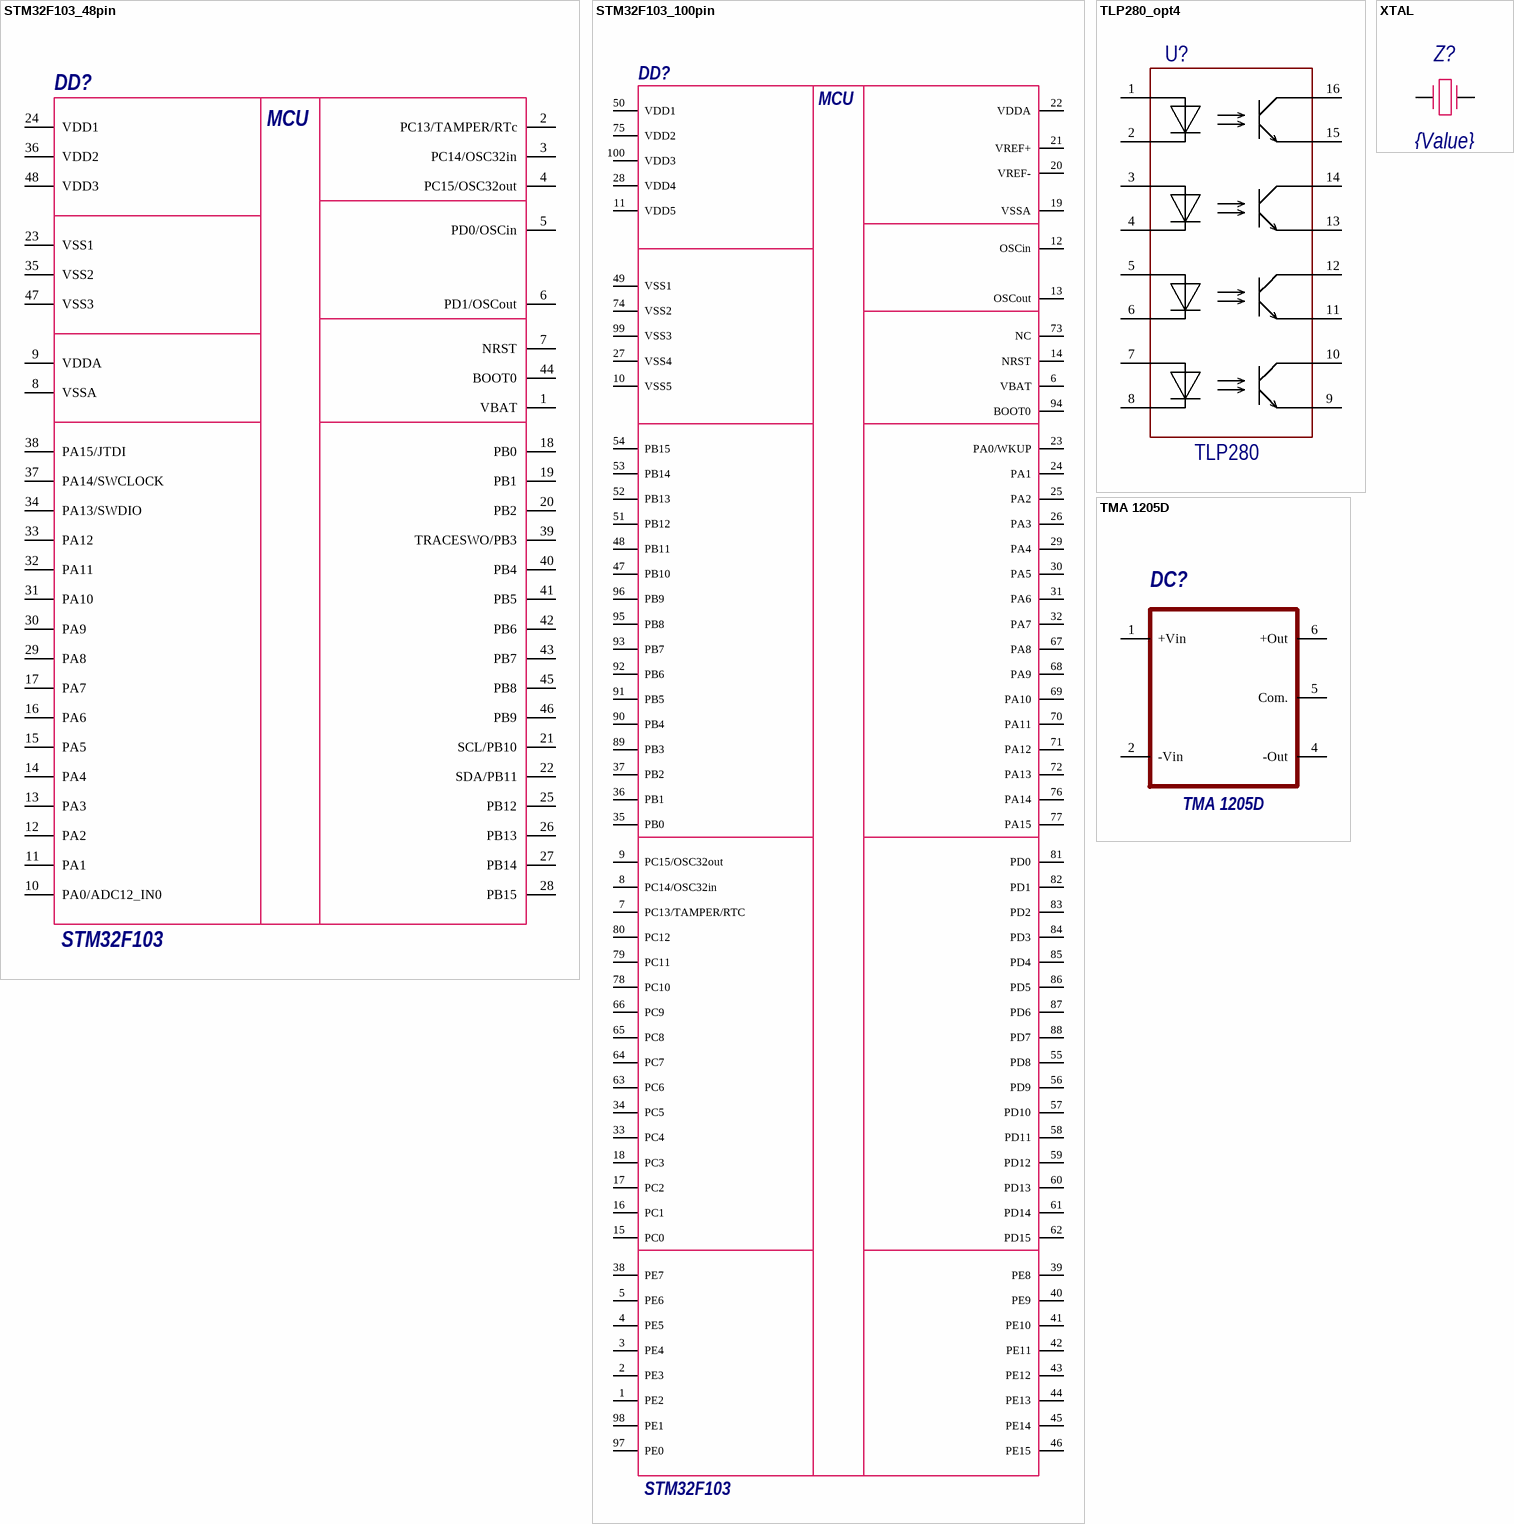
[diagram p5: symbols STM32F103_48pin to XTAL]

## STM32F103_48pin
designator DD?, comment Value1: MCU  (hidden comment: STM32F103)
Manufacturer: ST Microelectronics; Rate: -0,3...4,0В; Shop: магазин с самой дешевой ценой; Notice: 48 пиновая версия STM32F103; Datasheet: http://www.st.com/content/ccc/resource/technical/document/datasheet/33/d4/6f/1d/df/0b/4c/6d/CD00161566.pdf/files/CD00161566.pdf/jcr:content/translations/en.CD00161566.pdf; Case: корпус; Value: STM32F103
footprint LQFP48 (LQFP48 - 48-pin, 7 x 7 mm low-profile quad flat package  mechanical data)
pins: 1 VBAT, 2 PC13/TAMPER/RTc, 3 PC14/OSC32in, 4 PC15/OSC32out, 5 PD0/OSCin, 6 PD1/OSCout, 7 NRST, 8 VSSA, 9 VDDA, 10 PA0/ADC12_IN0, 11 PA1, 12 PA2, 13 PA3, 14 PA4, 15 PA5, 16 PA6, 17 PA7, 18 PB0, 19 PB1, 20 PB2, 21 SCL/PB10, 22 SDA/PB11, 23 VSS1, 24 VDD1, 25 PB12, 26 PB13, 27 PB14, 28 PB15, 29 PA8, 30 PA9, 31 PA10, 32 PA11, 33 PA12, 34 PA13/SWDIO, 35 VSS2, 36 VDD2, 37 PA14/SWCLOCK, 38 PA15/JTDI, 39 TRACESWO/PB3, 40 PB4, 41 PB5, 42 PB6, 43 PB7, 44 BOOT0, 45 PB8, 46 PB9, 47 VSS3, 48 VDD3

## STM32F103_100pin
designator DD?, comment Value1: MCU  (hidden comment: STM32F103)
Manufacturer: ST Microelectronics; Rate: -0,3...4,0В; Shop: магазин с самой дешевой ценой; Notice: 100 пиновая версия STM32F103; Datasheet: http://www.st.com/content/ccc/resource/technical/document/datasheet/33/d4/6f/1d/df/0b/4c/6d/CD00161566.pdf/files/CD00161566.pdf/jcr:content/translations/en.CD00161566.pdf; Case: корпус; Value: STM32F103
pins: 1 PE2, 2 PE3, 3 PE4, 4 PE5, 5 PE6, 6 VBAT, 7 PC13/TAMPER/RTC, 8 PC14/OSC32in, 9 PC15/OSC32out, 10 VSS5, 11 VDD5, 12 OSCin, 13 OSCout, 14 NRST, 15 PC0, 16 PC1, 17 PC2, 18 PC3, 19 VSSA, 20 VREF-, 21 VREF+, 22 VDDA, 23 PA0/WKUP, 24 PA1, 25 PA2, 26 PA3, 27 VSS4, 28 VDD4, 29 PA4, 30 PA5, 31 PA6, 32 PA7, 33 PC4, 34 PC5, 35 PB0, 36 PB1, 37 PB2, 38 PE7, 39 PE8, 40 PE9, 41 PE10, 42 PE11, 43 PE12, 44 PE13, 45 PE14, 46 PE15, 47 PB10, 48 PB11, 49 VSS1, 50 VDD1, 51 PB12, 52 PB13, 53 PB14, 54 PB15, 55 PD8, 56 PD9, 57 PD10, 58 PD11, 59 PD12, 60 PD13, 61 PD14, 62 PD15, 63 PC6, 64 PC7, 65 PC8, 66 PC9, 67 PA8, 68 PA9, 69 PA10, 70 PA11, 71 PA12, 72 PA13, 73 NC, 74 VSS2, 75 VDD2, 76 PA14, 77 PA15, 78 PC10, 79 PC11, 80 PC12, 81 PD0, 82 PD1, 83 PD2, 84 PD3, 85 PD4, 86 PD5, 87 PD6, 88 PD7, 89 PB3, 90 PB4, 91 PB5, 92 PB6, 93 PB7, 94 BOOT0, 95 PB8, 96 PB9, 97 PE0, 98 PE1, 99 VSS3, 100 VDD3

## TLP280_opt4
designator U?, comment TLP280
footprint SOP-16 (SOIC, 16-Leads, Body 10,30x7,50mm, Pitch 1,27mm, IPC Medium Density)
pins: 1, 2, 3, 4, 5, 6, 7, 8, 9, 10, 11, 12, 13, 14, 15, 16

## TMA 1205D
designator DC?
Manufacturer: производитель; Rate: уровень напряжений; Shop: магазин с самой дешевой ценой; Notice: примечания; Datasheet: ссылка на даташит; Case: корпус; Value: TMA 1205D
footprint TMA 1205D
pins: 1 +Vin, 2 -Vin, 4 -Out, 5 Com., 6 +Out

## XTAL
designator Z?  value {Value}  (hidden comment: *)
XTAL
footprint HC49/4H_SMX (Surface Mount Quartz Crystal; Body 13.4 (inc. leads) x 4.9 mm (LxW max))
pins: 1, 2